# EAGLE library part CY8C4245AXI-483 (library ingress_res)
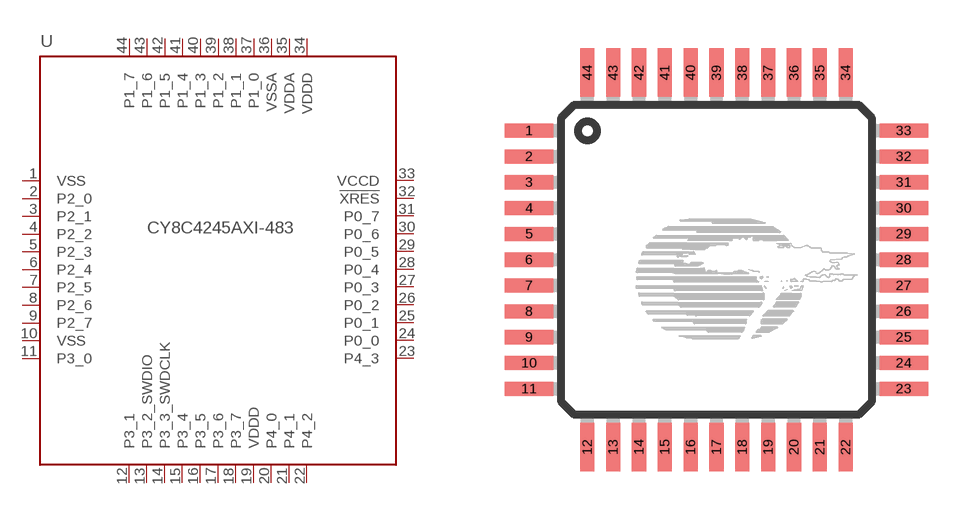
[diagram p1: symbol with the pads of TQFP44; footprint TQFP44]

Designator prefix -

## CY8C4245AXI-483  [TQFP44]
1  VSS  pwr
2  P2_0
3  P2_1
4  P2_2
5  P2_3
6  P2_4
7  P2_5
8  P2_6
9  P2_7
10  VSS  pwr
11  P3_0
12  P3_1
13  P3_2_SWDIO
14  P3_3_SWDCLK
15  P3_4
16  P3_5
17  P3_6
18  P3_7
19  VDDD  pwr
20  P4_0
21  P4_1
22  P4_2
23  P4_3
24  P0_0
25  P0_1
26  P0_2
27  P0_3
28  P0_4
29  P0_5
30  P0_6
31  P0_7
32  !XRES
33  VCCD  pwr
34  VDDD  pwr
35  VDDA  pwr
36  VSSA  pwr
37  P1_0
38  P1_1
39  P1_2
40  P1_3
41  P1_4
42  P1_5
43  P1_6
44  P1_7

## Footprint TQFP44 (pad centres in mm)
44-Pin TQFP Source: http://www.cypress.com .. CY8C213452.pdf
smd 1.5 x 0.44: 1 -5.8,4; 2 -5.8,3.2; 3 -5.8,2.4; 4 -5.8,1.6; 5 -5.8,0.8; 6 -5.8,0; 7 -5.8,-0.8; 8 -5.8,-1.6; 9 -5.8,-2.4; 10 -5.8,-3.2; 11 -5.8,-4; 23 5.8,-4; 24 5.8,-3.2; 25 5.8,-2.4; 26 5.8,-1.6; 27 5.8,-0.8; 28 5.8,0; 29 5.8,0.8; 30 5.8,1.6; 31 5.8,2.4; 32 5.8,3.2; 33 5.8,4
smd 0.44 x 1.5: 12 -4,-5.8; 13 -3.2,-5.8; 14 -2.4,-5.8; 15 -1.6,-5.8; 16 -0.8,-5.8; 17 0,-5.8; 18 0.8,-5.8; 19 1.6,-5.8; 20 2.4,-5.8; 21 3.2,-5.8; 22 4,-5.8; 34 4,5.8; 35 3.2,5.8; 36 2.4,5.8; 37 1.6,5.8; 38 0.8,5.8; 39 0,5.8; 40 -0.8,5.8; 41 -1.6,5.8; 42 -2.4,5.8; 43 -3.2,5.8; 44 -4,5.8